# Altium schematic symbol library AUDIO_JACK.SchLib: 1 symbol
Pins are listed as number, name and electrical type; pins without a type are passive.

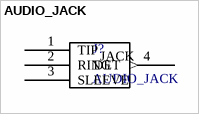
[diagram p0: symbol AUDIO_JACK]

## AUDIO_JACK
designator J?
Audio jack symbol
pins: 1 TIP, 2 RING, 3 SLEEVE, 4 DET (out)
text: JACK